# Altium schematic symbol library Supply Lines.SchLib: 23 symbols (part 2 of 2)
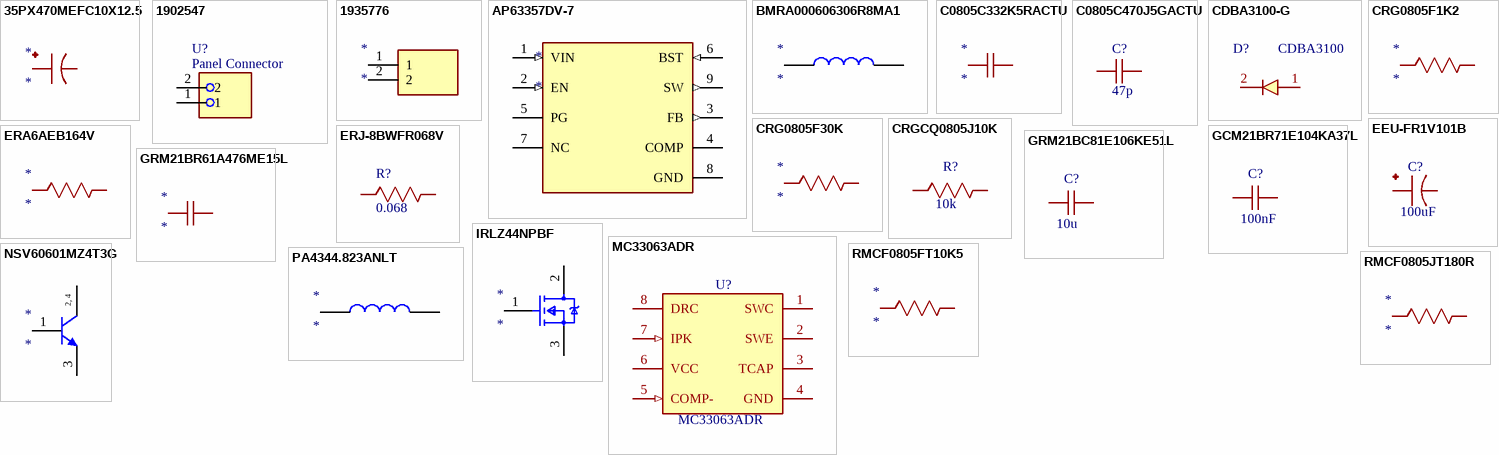
[diagram p1: symbols 35PX470MEFC10X12.5 to RMCF0805JT180R]

## ERJ-8BWFR068V
designator R?, comment 0.068
Res Thick Film 1206 0.068 Ohm 1% 1W ±100ppm/°C Molded SMD SMD Punched Carrier T/R; Manufacturer: Panasonic; Manufacturer Part Number: ERJ-8BWFR068V; Manufacturer Lifecycle Status: ACTIVE; Part Series: Current Sensing Resistors Thick Film Type; Value: 68mΩ; Working Voltage: 260.8mV; Supplier: DigiKey; Supplier Part Number: P.068AUCT-ND; RoHS: Compliant; Category: Chip SMD Resistors; Stock: 31382; Pricing: 1=0.66, 10=0.393, 25=0.3332, 50=0.299, 100=0.2718, 250=0.24428, 500=0.22836, 1000=0.21569 (USD); Case/Package: 1206; Case Code (Imperial): 1206; Case Code (Metric): 3216; Composition: Thick Film; Contact Plating: Tin; Depth: 1.6mm; Features: Automotive AEC-Q200; Height: 650µm; Lead Free: Lead Free; Length: 3.2mm; Lifecycle Status: Production; Max Operating Temperature: 155°C; Max Power Dissipation: 1W; Military Standard: Not; Min Operating Temperature: -55°C; Mounting Technology: Surface Mount; Pins: 2; Number of Terminals: 2; Number of Terminations: 2; Packaging: Cut Tape; Power Dissipation: 1W; Power Rating: 1W; Radiation Hardening: No; REACH SVHC: Yes; Schedule B: 8533210045, 8533210045|8533210045, 8533210045|8533210045|8533210045, 8533210045|8533210045|8533210045|8533210045; Temperature Coefficient: 100ppm/°C; Termination: SMD/SMT; Tolerance: 1%; Width: 1.6mm; ComponentLink1URL: https://datasheet.octopart.com:443/ERJ-8BWFR068V-Panasonic-datasheet-68299093.pdf?src-supplier=Panasonic; ComponentLink1Description: https://datasheet.octopart.com:443/ERJ-8BWFR068V-Panasonic-datasheet-68299093.pdf?src-supplier=Panasonic; ComponentLink2URL: https://datasheet.octopart.com:443/ERJ-8BWFR068V-Panasonic-datasheet-119112.pdf?src-supplier=Newark; ComponentLink2Description: https://datasheet.octopart.com:443/ERJ-8BWFR068V-Panasonic-datasheet-119112.pdf?src-supplier=Newark; ComponentLink3URL: https://datasheet.octopart.com:443/ERJ-8BWFR068V-Panasonic-datasheet-159764274.pdf?src-supplier=Newark; ComponentLink3Description: https://datasheet.octopart.com:443/ERJ-8BWFR068V-Panasonic-datasheet-159764274.pdf?src-supplier=Newark; ComponentLink4URL: https://datasheet.octopart.com:443/ERJ-8BWFR068V-Panasonic-datasheet-41172793.pdf?src-supplier=Farnell; ComponentLink4Description: https://datasheet.octopart.com:443/ERJ-8BWFR068V-Panasonic-datasheet-41172793.pdf?src-supplier=Farnell; ComponentLink5URL: https://datasheet.octopart.com:443/ERJ8BWFR068V-Panasonic---ECG-datasheet-15994758.pdf?src-supplier=Farnell; ComponentLink5Description: https://datasheet.octopart.com:443/ERJ8BWFR068V-Panasonic---ECG-datasheet-15994758.pdf?src-supplier=Farnell; ComponentLink6URL: https://datasheet.octopart.com:443/ERJ-8BWFR068V-Panasonic-datasheet-154766170.pdf?src-supplier=Master+Electronics; ComponentLink6Description: https://datasheet.octopart.com:443/ERJ-8BWFR068V-Panasonic-datasheet-154766170.pdf?src-supplier=Master+Electronics; ComponentLink7URL: https://datasheet.octopart.com:443/ERJ8BWFR068V-Panasonic-datasheet-12469511.pdf?src-supplier=element14+APAC; ComponentLink7Description: https://datasheet.octopart.com:443/ERJ8BWFR068V-Panasonic-datasheet-12469511.pdf?src-supplier=element14+APAC; ComponentLink8URL: https://datasheet.octopart.com:443/ERJ-8BWFR068V-Panasonic-datasheet-13271236.pdf?src-supplier=RS+(Formerly+Allied+Electronics); ComponentLink8Description: https://datasheet.octopart.com:443/ERJ-8BWFR068V-Panasonic-datasheet-13271236.pdf?src-supplier=RS+(Formerly+Allied+Electronics); ComponentLink9URL: https://datasheet.octopart.com:443/ERJ8BWFR068V-Panasonic-datasheet-10176864.pdf?src-supplier=RS+(Formerly+Allied+Electronics); ComponentLink9Description: https://datasheet.octopart.com:443/ERJ8BWFR068V-Panasonic-datasheet-10176864.pdf?src-supplier=RS+(Formerly+Allied+Electronics); ComponentLink10URL: https://datasheet.octopart.com:443/ERJ8BWFR068V-Panasonic-datasheet-170667598.pdf?src-supplier=TME; ComponentLink10Description: https://datasheet.octopart.com:443/ERJ8BWFR068V-Panasonic-datasheet-170667598.pdf?src-supplier=TME; ComponentLink11URL: https://datasheet.octopart.com:443/ERJ8BWFR068V-Panasonic-datasheet-164871471.pdf?src-supplier=Burklin+Elektronik; ComponentLink11Description: https://datasheet.octopart.com:443/ERJ8BWFR068V-Panasonic-datasheet-164871471.pdf?src-supplier=Burklin+Elektronik; ComponentLink12URL: https://datasheet.octopart.com:443/ERJ-8BWFR068V-Panasonic-datasheet-62346600.pdf?src-supplier=Future+Electronics; ComponentLink12Description: https://datasheet.octopart.com:443/ERJ-8BWFR068V-Panasonic-datasheet-62346600.pdf?src-supplier=Future+Electronics; ComponentLink13URL: https://datasheet.octopart.com:443/ERJ-8BWFR068V-Panasonic-datasheet-62099257.pdf?src-supplier=Electro+Sonic; ComponentLink13Description: https://datasheet.octopart.com:443/ERJ-8BWFR068V-Panasonic-datasheet-62099257.pdf?src-supplier=Electro+Sonic; ComponentLink14URL: https://datasheet.octopart.com:443/ERJ-8BWFR068V-Panasonic-datasheet-22087634.pdf?src-supplier=Electro+Sonic; ComponentLink14Description: https://datasheet.octopart.com:443/ERJ-8BWFR068V-Panasonic-datasheet-22087634.pdf?src-supplier=Electro+Sonic
footprint (1206) RESC3216X70X50NL05T20 (Chip Resistor, 2-Leads, Body 3.20x1.60mm, IPC Medium Density)
pins: 1, 2

## GCM21BR71E104KA37L
designator C?, comment 100nF
Ceramic Capacitor, Ceramic, 25V, 10% +Tol, 10% -Tol, X7R, 15% TC, 0.1uF, Surface Mount, 0805; Manufacturer: Murata; Manufacturer Part Number: GCM21BR71E104KA37L; Manufacturer Lifecycle Status: NRND; Supplier: DigiKey; Supplier Part Number: 490-14779-1-ND; RoHS: Compliant; Category: Ceramic Capacitors; Stock: 12316; Pricing: 1=0.35, 10=0.208, 50=0.1528, 100=0.1358, 500=0.10726, 1000=0.09846 (USD); Value: 100nF; Case/Package: 0805; Case Code (Imperial): 0805; Case Code (Metric): 2012; Depth: 1.25mm; Dielectric: X7R; Dielectric Material: Ceramic; Height: 1.25mm; Length: 2mm; Lifecycle Status: NRND; Max Operating Temperature: 125°C; Min Operating Temperature: -55°C; Mounting Technology: Surface Mount; Number of Terminals: 2; Radiation Hardening: No; Ratings: AEC-Q200; REACH SVHC: Yes; Schedule B: 8532240020, 8532240020|8532240020|8532240020|8532240020|8532240020; Termination: SMD/SMT; Tolerance: 10%; Voltage Rating: 25V; Voltage Rating (DC): 25V; Width: 1.25mm; ComponentLink1URL: https://datasheet.octopart.com:443/GCM21BR71E104KA37L-Murata-datasheet-141268656.pdf?src-supplier=Geoflip; ComponentLink1Description: https://datasheet.octopart.com:443/GCM21BR71E104KA37L-Murata-datasheet-141268656.pdf?src-supplier=Geoflip; ComponentLink2URL: https://datasheet.octopart.com:443/GCM21BR71E104KA37L-Murata-datasheet-140660253.pdf?src-supplier=Ciiva; ComponentLink2Description: https://datasheet.octopart.com:443/GCM21BR71E104KA37L-Murata-datasheet-140660253.pdf?src-supplier=Ciiva; ComponentLink3URL: https://datasheet.octopart.com:443/GCM21BR71E104KA37L-Murata-datasheet-138719617.pdf?src-supplier=Ciiva; ComponentLink3Description: https://datasheet.octopart.com:443/GCM21BR71E104KA37L-Murata-datasheet-138719617.pdf?src-supplier=Ciiva; ComponentLink4URL: https://datasheet.octopart.com:443/GCM21BR71E104KA37L-Murata-datasheet-128592896.pdf?src-supplier=X-ON; ComponentLink4Description: https://datasheet.octopart.com:443/GCM21BR71E104KA37L-Murata-datasheet-128592896.pdf?src-supplier=X-ON; ComponentLink5URL: https://datasheet.octopart.com/GCM21BR71E104KA37L-Murata-datasheet-14404970.pdf; ComponentLink5Description: https://datasheet.octopart.com/GCM21BR71E104KA37L-Murata-datasheet-14404970.pdf; ComponentLink6URL: http://sigma.octopart.com:80/reach_statement/Murata-company-16.pdf?src-supplier=Compliance+Statements; ComponentLink6Description: http://sigma.octopart.com:80/reach_statement/Murata-company-16.pdf?src-supplier=Compliance+Statements
footprint CAPC2013X140X45ML15T25 (Chip Capacitor, 2-Leads, Body 2.00x1.25mm, IPC Low Density)
pins: 1, 2

## GRM21BC81E106KE51L
designator C?, comment 10u
Ceramic Capacitor, Ceramic, 25V, 10% +Tol, 10% -Tol, X6S, 22% TC, 10uF, Surface Mount, 0805; Manufacturer: Murata; Manufacturer Part Number: GRM21BC81E106KE51L; Manufacturer Lifecycle Status: IN PRODUCTION; Value: 10µF; Supplier: DigiKey; Supplier Part Number: 490-10502-1-ND; RoHS: Compliant; Category: Ceramic Capacitors; Stock: 699194; Pricing: 1=0.23, 10=0.133, 50=0.0956, 100=0.0841, 500=0.06476, 1000=0.05881 (USD); Case/Package: 0805; Case Code (Imperial): 0805; Case Code (Metric): 2012; Dielectric: X6S; Dielectric Material: Ceramic; Height: 1.25mm; Length: 2mm; Lifecycle Status: Production; Material: Ceramic; Max Operating Temperature: 105°C; Min Operating Temperature: -55°C; Mounting Technology: Surface Mount; Number of Terminals: 2; REACH SVHC: Yes; Schedule B: 8532240020, 8532240020|8532240020|8532240020|8532240020|8532240020|8532240020|8532240020|8532240020|8532240020|8532240020|8532240020|8532240020|8532240020|8532240020|8532240020|8532240020|8532240020|8532240020|8532240020|8532240020|8532240020|8532240020|8532240020|85; Thickness: 1.25mm; Tolerance: 10%; Voltage Rating: 25V; Voltage Rating (DC): 25V; Width: 1.25mm; ComponentLink1URL: https://datasheet.octopart.com:443/GRM21BC81E106KE51L-Murata-datasheet-155239200.pdf?src-supplier=Newark; ComponentLink1Description: https://datasheet.octopart.com:443/GRM21BC81E106KE51L-Murata-datasheet-155239200.pdf?src-supplier=Newark; ComponentLink2URL: https://datasheet.octopart.com:443/GRM21BC81E106KE51L-Murata-datasheet-178521784.pdf?src-supplier=Arrow.cn; ComponentLink2Description: https://datasheet.octopart.com:443/GRM21BC81E106KE51L-Murata-datasheet-178521784.pdf?src-supplier=Arrow.cn; ComponentLink3URL: https://datasheet.octopart.com:443/GRM21BC81E106KE51L-Murata-datasheet-165579666.pdf?src-supplier=TME; ComponentLink3Description: https://datasheet.octopart.com:443/GRM21BC81E106KE51L-Murata-datasheet-165579666.pdf?src-supplier=TME; ComponentLink4URL: https://datasheet.octopart.com:443/GRM21BC81E106KE51L-Murata-datasheet-140707432.pdf?src-supplier=Ciiva; ComponentLink4Description: https://datasheet.octopart.com:443/GRM21BC81E106KE51L-Murata-datasheet-140707432.pdf?src-supplier=Ciiva; ComponentLink5URL: https://datasheet.octopart.com:443/GRM21BC81E106KE51L-Murata-datasheet-140706587.pdf?src-supplier=Ciiva; ComponentLink5Description: https://datasheet.octopart.com:443/GRM21BC81E106KE51L-Murata-datasheet-140706587.pdf?src-supplier=Ciiva; ComponentLink6URL: https://datasheet.octopart.com:443/GRM21BC81E106KE51L-Murata-datasheet-138744753.pdf?src-supplier=Ciiva; ComponentLink6Description: https://datasheet.octopart.com:443/GRM21BC81E106KE51L-Murata-datasheet-138744753.pdf?src-supplier=Ciiva; ComponentLink7URL: https://datasheet.octopart.com:443/GRM21BC81E106KE51L-Murata-datasheet-32479577.pdf?src-supplier=Future+Electronics; ComponentLink7Description: https://datasheet.octopart.com:443/GRM21BC81E106KE51L-Murata-datasheet-32479577.pdf?src-supplier=Future+Electronics; ComponentLink8URL: https://datasheet.octopart.com/GRM21BC81E106KE51L-Murata-datasheet-12515295.pdf; ComponentLink8Description: https://datasheet.octopart.com/GRM21BC81E106KE51L-Murata-datasheet-12515295.pdf; ComponentLink9URL: https://datasheet.octopart.com/GRM21BC81E106KE51L-Murata-datasheet-12510076.pdf; ComponentLink9Description: https://datasheet.octopart.com/GRM21BC81E106KE51L-Murata-datasheet-12510076.pdf; ComponentLink10URL: https://datasheet.octopart.com/GRM21BC81E106KE51L-Murata-datasheet-11978611.pdf; ComponentLink10Description: https://datasheet.octopart.com/GRM21BC81E106KE51L-Murata-datasheet-11978611.pdf; ComponentLink11URL: https://datasheet.octopart.com/GRM21BC81E106KE51L-Murata-datasheet-10025737.pdf; ComponentLink11Description: https://datasheet.octopart.com/GRM21BC81E106KE51L-Murata-datasheet-10025737.pdf; ComponentLink12URL: https://datasheet.octopart.com/GRM21BC81E106KE51L-Murata-datasheet-8819587.pdf; ComponentLink12Description: https://datasheet.octopart.com/GRM21BC81E106KE51L-Murata-datasheet-8819587.pdf; ComponentLink13URL: https://datasheet.octopart.com/GRM21BC81E106KE51L-Murata-datasheet-38883375.pdf; ComponentLink13Description: https://datasheet.octopart.com/GRM21BC81E106KE51L-Murata-datasheet-38883375.pdf; ComponentLink14URL: http://sigma.octopart.com:80/reach_statement/Murata-company-16.pdf?src-supplier=Compliance+Statements; ComponentLink14Description: http://sigma.octopart.com:80/reach_statement/Murata-company-16.pdf?src-supplier=Compliance+Statements
footprint FP-GRM21B-0_15-IPC_A
pins: 1, 2

## GRM21BR61A476ME15L
designator *
10V 47uF X5R ±20% 0805 Multilayer Ceramic Capacitors MLCC - SMD/SMT ROHS; Manufacturer: Murata; Manufacturer Part Number: GRM21BR61A476ME15L; Manufacturer Lifecycle Status: IN PRODUCTION; Value: 47µF; Dissipation Factor: 0.035%; Supplier: Mouser; Supplier Part Number: 81-GRM21BR61A476ME5L; RoHS: Compliant; Category: Ceramic Capacitors; Stock: 454455; Pricing: 1=0.64, 10=0.423, 50=0.285, 100=0.264, 500=0.213, 1000=0.195, 3000=0.152, 6000=0.147, 10000=0.17 (USD); Case/Package: 0805; Case Code (Imperial): 0805; Case Code (Metric): 2012; Country of Origin: Philippines; Depth: 1.25mm; Dielectric: X5R; Dielectric Material: Ceramic; Export Control Classification Number (ECCN) Code: EAR99; Height: 1.25mm; Harmonized Tariff Schedule (HTS) Code: 8532.24.00.20; Introduction Date: 2013-11-20; Lead Free: Lead Free; Length: 2mm; Lifecycle Status: Production; Material: Ceramic; Max Operating Temperature: 85°C; Min Operating Temperature: -55°C; Mounting Technology: Surface Mount; Number of Terminals: 2; Packaging: Cut Tape; REACH SVHC: Yes; Schedule B: 8532240020, 8532240020|8532240020, 8532240020|8532240020|8532240020, 8532240020|8532240020|8532240020|8532240020; Termination: SMD/SMT; Thickness: 1.25mm; Tolerance: 20%; Voltage: 10V; Voltage Rating: 10V; Voltage Rating (DC): 10V; Width: 1.25mm; ComponentLink1URL: https://datasheet.octopart.com:443/GRM21BR61A476ME15L-Murata-datasheet-22122223.pdf?src-supplier=Upverter; ComponentLink1Description: https://datasheet.octopart.com:443/GRM21BR61A476ME15L-Murata-datasheet-22122223.pdf?src-supplier=Upverter; ComponentLink2URL: https://datasheet.octopart.com:443/GRM21BR61A476ME15L-Murata-datasheet-66077109.pdf?src-supplier=element14+APAC; ComponentLink2Description: https://datasheet.octopart.com:443/GRM21BR61A476ME15L-Murata-datasheet-66077109.pdf?src-supplier=element14+APAC; ComponentLink3URL: https://datasheet.octopart.com:443/GRM21BR61A476ME15L-Murata-datasheet-141278181.pdf?src-supplier=Geoflip; ComponentLink3Description: https://datasheet.octopart.com:443/GRM21BR61A476ME15L-Murata-datasheet-141278181.pdf?src-supplier=Geoflip; ComponentLink4URL: https://datasheet.octopart.com:443/GRM21BR61A476ME15L-Murata-datasheet-165579666.pdf?src-supplier=TME; ComponentLink4Description: https://datasheet.octopart.com:443/GRM21BR61A476ME15L-Murata-datasheet-165579666.pdf?src-supplier=TME; ComponentLink5URL: https://datasheet.octopart.com:443/GRM21BR61A476ME15L-Murata-datasheet-59876780.pdf?src-supplier=TME; ComponentLink5Description: https://datasheet.octopart.com:443/GRM21BR61A476ME15L-Murata-datasheet-59876780.pdf?src-supplier=TME; ComponentLink6URL: https://datasheet.octopart.com:443/GRM21BR61A476ME15L-Murata-datasheet-140707527.pdf?src-supplier=Ciiva; ComponentLink6Description: https://datasheet.octopart.com:443/GRM21BR61A476ME15L-Murata-datasheet-140707527.pdf?src-supplier=Ciiva; ComponentLink7URL: https://datasheet.octopart.com:443/GRM21BR61A476ME15L-Murata-datasheet-138744839.pdf?src-supplier=Ciiva; ComponentLink7Description: https://datasheet.octopart.com:443/GRM21BR61A476ME15L-Murata-datasheet-138744839.pdf?src-supplier=Ciiva; ComponentLink8URL: https://datasheet.octopart.com/GRM21BR61A476ME15L-Murata-datasheet-12515295.pdf; ComponentLink8Description: https://datasheet.octopart.com/GRM21BR61A476ME15L-Murata-datasheet-12515295.pdf; ComponentLink9URL: https://datasheet.octopart.com/GRM21BR61A476ME15L-Murata-datasheet-12510076.pdf; ComponentLink9Description: https://datasheet.octopart.com/GRM21BR61A476ME15L-Murata-datasheet-12510076.pdf; ComponentLink10URL: https://datasheet.octopart.com/GRM21BR61A476ME15L-Murata-datasheet-11978611.pdf; ComponentLink10Description: https://datasheet.octopart.com/GRM21BR61A476ME15L-Murata-datasheet-11978611.pdf; ComponentLink11URL: https://datasheet.octopart.com/GRM21BR61A476ME15L-Murata-datasheet-10025737.pdf; ComponentLink11Description: https://datasheet.octopart.com/GRM21BR61A476ME15L-Murata-datasheet-10025737.pdf; ComponentLink12URL: https://datasheet.octopart.com/GRM21BR61A476ME15L-Murata-datasheet-8819587.pdf; ComponentLink12Description: https://datasheet.octopart.com/GRM21BR61A476ME15L-Murata-datasheet-8819587.pdf; ComponentLink13URL: http://sigma.octopart.com:80/reach_statement/Murata-company-16.pdf?src-supplier=Compliance+Statements; ComponentLink13Description: http://sigma.octopart.com:80/reach_statement/Murata-company-16.pdf?src-supplier=Compliance+Statements
footprint FP-GRM21B-0_15-IPC_A
pins: 1, 2

## IRLZ44NPBF
designator *
Mosfet, Power; N-ch; Vdss 55V; Rds(on) 0.022 Ohm; Id 47A; TO-220AB; Pd 110W; Vgs +/-16V; Manufacturer: Infineon; Manufacturer Part Number: IRLZ44NPBF; Continuous Drain Current (ID): 41A; Drain to Source Resistance: 22mΩ; Element Configuration: Single; Fall Time: 15ns; Gate to Source Voltage (Vgs): 16V; Input Capacitance: 1.7nF; Max Junction Temperature (Tj): 175°C; Max Power Dissipation: 83W; Nominal Vgs: 2V; Number of Channels: 1; Recovery Time: 120ns; Value: 22mΩ; Rise Time: 84ns; Turn-Off Delay Time: 26ns; Turn-On Delay Time: 11ns; Supplier: Mouser; Supplier Part Number: 942-IRLZ44NPBF; RoHS: Compliant; Category: MOSFETs; Stock: 23728; Pricing: 1=1.78, 10=0.852, 50=0.852, 100=0.761, 500=0.602, 1000=0.55, 2000=0.533, 10000=0.533 (USD); Case/Package: TO-220; China RoHS: Compliant; Country of Origin: Mainland China; Current Rating: 47A; Drain to Source Breakdown Voltage: 55V; Drain to Source Voltage (Vdss): 55V; Dual Supply Voltage: 55V; Export Control Classification Number (ECCN) Code: EAR99; Height: 19.15mm; Harmonized Tariff Schedule (HTS) Code: 8541.29.00.95; Introduction Date: 1996-02-01; Lead Free: Lead Free; Lead Pitch: 2.54mm; Length: 10.5156mm; Lifecycle Status: Obsolete; Max Operating Temperature: 175°C; Min Breakdown Voltage: 55V; Min Operating Temperature: -55°C; Mounting Technology: Through Hole; Number of Elements: 1; Pins: 3; Number of Terminals: 3; On-State Resistance: 22mΩ; Package Quantity: 1000; Packaging: Bulk; Power Dissipation: 83W; Radiation Hardening: No; Rds On Max: 22mΩ; REACH SVHC: Yes; Schedule B: 8541290080, 8541290080|8541290080, 8541290080|8541290080|8541290080, 8541290080|8541290080|8541290080|8541290080; Threshold Voltage: 2V; Voltage Rating (DC): 55V; Width: 4.69mm; ComponentLink1URL: https://datasheet.octopart.com:443/IRLZ44NPBF-Infineon-datasheet-8115202.pdf?src-supplier=IHS; ComponentLink1Description: https://datasheet.octopart.com:443/IRLZ44NPBF-Infineon-datasheet-8115202.pdf?src-supplier=IHS; ComponentLink2URL: https://datasheet.octopart.com:443/IRLZ44NPBF-Infineon-datasheet-180073549.pdf?src-supplier=IHS; ComponentLink2Description: https://datasheet.octopart.com:443/IRLZ44NPBF-Infineon-datasheet-180073549.pdf?src-supplier=IHS; ComponentLink3URL: https://datasheet.octopart.com:443/IRLZ44NPBF-Infineon-datasheet-8332259.pdf?src-supplier=IHS; ComponentLink3Description: https://datasheet.octopart.com:443/IRLZ44NPBF-Infineon-datasheet-8332259.pdf?src-supplier=IHS; ComponentLink4URL: https://datasheet.octopart.com:443/IRLZ44N-International-Rectifier-datasheet-13774.pdf?src-supplier=Mouser; ComponentLink4Description: https://datasheet.octopart.com:443/IRLZ44N-International-Rectifier-datasheet-13774.pdf?src-supplier=Mouser; ComponentLink5URL: https://datasheet.octopart.com:443/IRLZ44NPBF-Infineon-datasheet-9571985.pdf?src-supplier=RS+(Formerly+Allied+Electronics); ComponentLink5Description: https://datasheet.octopart.com:443/IRLZ44NPBF-Infineon-datasheet-9571985.pdf?src-supplier=RS+(Formerly+Allied+Electronics); ComponentLink6URL: https://datasheet.octopart.com:443/IRLZ44N-International-Rectifier-datasheet-72962.pdf?src-supplier=RS+(Formerly+Allied+Electronics); ComponentLink6Description: https://datasheet.octopart.com:443/IRLZ44N-International-Rectifier-datasheet-72962.pdf?src-supplier=RS+(Formerly+Allied+Electronics); ComponentLink7URL: https://datasheet.octopart.com:443/IRLZ44NPBF-Infineon-datasheet-7084853.pdf?src-supplier=Jameco; ComponentLink7Description: https://datasheet.octopart.com:443/IRLZ44NPBF-Infineon-datasheet-7084853.pdf?src-supplier=Jameco; ComponentLink8URL: https://datasheet.octopart.com:443/IRLZ44N-International-Rectifier-datasheet-10848736.pdf?src-supplier=iiiC; ComponentLink8Description: https://datasheet.octopart.com:443/IRLZ44N-International-Rectifier-datasheet-10848736.pdf?src-supplier=iiiC; ComponentLink9URL: https://datasheet.octopart.com:443/IRLZ44NPBF-International-Rectifier-datasheet-14061625.pdf?src-supplier=iiiC; ComponentLink9Description: https://datasheet.octopart.com:443/IRLZ44NPBF-International-Rectifier-datasheet-14061625.pdf?src-supplier=iiiC; ComponentLink10URL: https://datasheet.octopart.com:443/IRLZ44NPBF-International-Rectifier-datasheet-77209.pdf?src-supplier=DigiKey; ComponentLink10Description: https://datasheet.octopart.com:443/IRLZ44NPBF-International-Rectifier-datasheet-77209.pdf?src-supplier=DigiKey; ComponentLink11URL: http://sigma.octopart.com:80/conflict_mineral_statement/Infineon-company-51.pdf?src-supplier=Compliance+Statements; ComponentLink11Description: http://sigma.octopart.com:80/conflict_mineral_statement/Infineon-company-51.pdf?src-supplier=Compliance+Statements; ComponentLink12URL: http://sigma.octopart.com:80/reach_statement/International-Rectifier-company-55.pdf?src-supplier=Compliance+Statements; ComponentLink12Description: http://sigma.octopart.com:80/reach_statement/International-Rectifier-company-55.pdf?src-supplier=Compliance+Statements; ComponentLink13URL: http://sigma.octopart.com:80/rohs_statement/International-Rectifier-company-54.pdf?src-supplier=Compliance+Statements; ComponentLink13Description: http://sigma.octopart.com:80/rohs_statement/International-Rectifier-company-54.pdf?src-supplier=Compliance+Statements
footprint (MOSFET) FP-PG-TO220-3-MFG
pins: 1 G, 2 D, 3 S

## MC33063ADR
designator U?
1.5-A boost, buck, inverting switching regulator, operation from -40°C to 85°C 8-SOIC -40 to 85; Manufacturer: Texas Instruments; Manufacturer Lifecycle Status: ACTIVE; Max Supply Voltage: 40V; Max Output current: 750mA; Min Input Voltage: 3V; Min Output Voltage: 1.25V; Number of Channels: 1; Output Current: 1.5A; Output Type: Adjustable; Quiescent Current: 4mA; Switching Frequency: 100kHz; Synchronous Rectifier: No; Topology: Boost, Buck, Flyback, SEPIC; Supplier: DigiKey; Supplier Part Number: 296-17763-1-ND; Manufacturer Part Number: MC33063ADR; RoHS: Compliant; Category: Voltage Regulators - Switching; Stock: 28348; Pricing: 1=0.7, 10=0.499, 25=0.4484, 100=0.3924, 250=0.36564, 500=0.3495, 1000=0.33623 (USD); Case/Package: SOIC; Contact Plating: Gold; Height: 1.75mm; Lead Free: Lead Free; Length: 4.9mm; Lifecycle Status: Production; Max Operating Temperature: 85°C; Max Output Voltage: 40V; Min Operating Temperature: -40°C; Number of Outputs: 1; Pins: 8; Output Voltage: 1.25V; Packaging: Cut Tape; REACH SVHC: No; Schedule B: 8542390000, 8542390000|8542390000|8542390000|8542390000|8542390000; Termination: SMD/SMT; Thickness: 1.58mm; Weight: 72.603129mg; Width: 3.91mm; ComponentLink1URL: https://octopart.com:443/opatz8j6/c1?t=vRUIAOtUKQQXvKqlrexfz4d8y8SFcyA-_XtbYegMgY-IuIHpQagvyubSixvLCS_JDfIKt_x49E7oZRWRd2BYWVXw9riueRxdDMFAsJXXPSqOaGP_nMLA8edQwSNTnMdmR1QsnAu_2HxxO1rwpalXz5NHB4arOO7zP6RfKxWUVDNQ7aNY3RcHgLh8TPXRHc2v_TLvNv-KiSbEAIFDeTYUuYJBqwNy3sQmWDm06T9xZhirujnXW-71LBNlB35zEcw1f5jl7Jwf5Aatpw8_Y0XlWi65mimBgoqKr7BJn1UODlk-uLR8ncNtZqIX6iRmA18OAad3m3uXmi8PXYahMMydeUxFiCmjmLIy7NAXwyodWvx5H3_ir9o9F0TP9Dp4ezsZFjQt&src-supplier=Texas+Instruments; ComponentLink1Description: https://octopart.com:443/opatz8j6/c1?t=vRUIAOtUKQQXvKqlrexfz4d8y8SFcyA-_XtbYegMgY-IuIHpQagvyubSixvLCS_JDfIKt_x49E7oZRWRd2BYWVXw9riueRxdDMFAsJXXPSqOaGP_nMLA8edQwSNTnMdmR1QsnAu_2HxxO1rwpalXz5NHB4arOO7zP6RfKxWUVDNQ7aNY3RcHgLh8TPXRHc2v_TLvNv-KiSbEAIFDeTYUuYJBqwNy3sQmWDm06T9xZhirujnXW-71LBNlB35zEcw1f5jl7Jwf5Aatpw8_Y0XlWi65mimBgoqKr7BJn1UODlk-uLR8ncNtZqIX6iRmA18OAad3m3uXmi8PXYahMMydeUxFiCmjmLIy7NAXwyodWvx5H3_ir9o9F0TP9Dp4ezsZFjQt&src-supplier=Texas+Instruments; ComponentLink2URL: https://datasheet.octopart.com:443/MC33063ADR-Texas-Instruments-datasheet-10254267.pdf?src-supplier=Texas+Instruments; ComponentLink2Description: https://datasheet.octopart.com:443/MC33063ADR-Texas-Instruments-datasheet-10254267.pdf?src-supplier=Texas+Instruments; ComponentLink3URL: https://sigma.octopart.com:443/49249642/technical_drawing/Texas-Instruments-MC33063ADR.pdf?src-supplier=Texas+Instruments; ComponentLink3Description: https://sigma.octopart.com:443/49249642/technical_drawing/Texas-Instruments-MC33063ADR.pdf?src-supplier=Texas+Instruments; ComponentLink4URL: https://datasheet.octopart.com:443/MC33063ADR-Texas-Instruments-datasheet-149239.pdf?src-supplier=Texas+Instruments; ComponentLink4Description: https://datasheet.octopart.com:443/MC33063ADR-Texas-Instruments-datasheet-149239.pdf?src-supplier=Texas+Instruments; ComponentLink5URL: https://datasheet.octopart.com:443/MC33063ADR-Texas-Instruments-datasheet-149238.pdf?src-supplier=Texas+Instruments; ComponentLink5Description: https://datasheet.octopart.com:443/MC33063ADR-Texas-Instruments-datasheet-149238.pdf?src-supplier=Texas+Instruments; ComponentLink6URL: https://datasheet.octopart.com:443/MC33063ADR-Texas-Instruments-datasheet-149237.pdf?src-supplier=Texas+Instruments; ComponentLink6Description: https://datasheet.octopart.com:443/MC33063ADR-Texas-Instruments-datasheet-149237.pdf?src-supplier=Texas+Instruments; ComponentLink7URL: https://datasheet.octopart.com:443/MC33063ADR-Texas-Instruments-datasheet-149241.pdf?src-supplier=Texas+Instruments; ComponentLink7Description: https://datasheet.octopart.com:443/MC33063ADR-Texas-Instruments-datasheet-149241.pdf?src-supplier=Texas+Instruments; ComponentLink8URL: https://datasheet.octopart.com:443/MC33063ADR-Texas-Instruments-datasheet-149240.pdf?src-supplier=Texas+Instruments; ComponentLink8Description: https://datasheet.octopart.com:443/MC33063ADR-Texas-Instruments-datasheet-149240.pdf?src-supplier=Texas+Instruments; ComponentLink9URL: https://datasheet.octopart.com:443/MC33063ADR-Texas-Instruments-datasheet-81639027.pdf?src-supplier=Farnell; ComponentLink9Description: https://datasheet.octopart.com:443/MC33063ADR-Texas-Instruments-datasheet-81639027.pdf?src-supplier=Farnell; ComponentLink10URL: https://datasheet.octopart.com:443/MC33063ADR-Texas-Instruments-datasheet-37140769.pdf?src-supplier=Farnell; ComponentLink10Description: https://datasheet.octopart.com:443/MC33063ADR-Texas-Instruments-datasheet-37140769.pdf?src-supplier=Farnell; ComponentLink11URL: https://datasheet.octopart.com:443/MC33063ADR-Texas-Instruments-datasheet-12606816.pdf?src-supplier=Farnell; ComponentLink11Description: https://datasheet.octopart.com:443/MC33063ADR-Texas-Instruments-datasheet-12606816.pdf?src-supplier=Farnell; ComponentLink12URL: https://datasheet.octopart.com:443/MC33063ADR-Texas-Instruments-datasheet-33038661.pdf?src-supplier=element14+APAC; ComponentLink12Description: https://datasheet.octopart.com:443/MC33063ADR-Texas-Instruments-datasheet-33038661.pdf?src-supplier=element14+APAC; ComponentLink13URL: https://datasheet.octopart.com:443/MC33063ADR.-Texas-Instruments-datasheet-65572232.pdf?src-supplier=element14+APAC; ComponentLink13Description: https://datasheet.octopart.com:443/MC33063ADR.-Texas-Instruments-datasheet-65572232.pdf?src-supplier=element14+APAC; ComponentLink14URL: https://datasheet.octopart.com:443/MC33063ADR.-Texas-Instruments-datasheet-58444985.pdf?src-supplier=element14+APAC; ComponentLink14Description: https://datasheet.octopart.com:443/MC33063ADR.-Texas-Instruments-datasheet-58444985.pdf?src-supplier=element14+APAC; ComponentLink15URL: https://datasheet.octopart.com:443/MC33063ADR-Texas-Instruments-datasheet-23714746.pdf?src-supplier=Newark; ComponentLink15Description: https://datasheet.octopart.com:443/MC33063ADR-Texas-Instruments-datasheet-23714746.pdf?src-supplier=Newark; ComponentLink16URL: https://datasheet.octopart.com:443/MC33063ADR-Texas-Instruments-datasheet-12052.pdf?src-supplier=Newark; ComponentLink16Description: https://datasheet.octopart.com:443/MC33063ADR-Texas-Instruments-datasheet-12052.pdf?src-supplier=Newark; ComponentLink17URL: https://datasheet.octopart.com:443/MC33063ADR-Texas-Instruments-datasheet-159115500.pdf?src-supplier=LCSC; ComponentLink17Description: https://datasheet.octopart.com:443/MC33063ADR-Texas-Instruments-datasheet-159115500.pdf?src-supplier=LCSC; ComponentLink18URL: https://datasheet.octopart.com:443/MC33063ADR-Texas-Instruments-datasheet-137316104.pdf?src-supplier=Future+Electronics; ComponentLink18Description: https://datasheet.octopart.com:443/MC33063ADR-Texas-Instruments-datasheet-137316104.pdf?src-supplier=Future+Electronics; ComponentLink19URL: https://datasheet.octopart.com:443/MC33063ADR-Texas-Instruments-datasheet-11768196.pdf?src-supplier=Arrow+Electronics; ComponentLink19Description: https://datasheet.octopart.com:443/MC33063ADR-Texas-Instruments-datasheet-11768196.pdf?src-supplier=Arrow+Electronics; ComponentLink20URL: https://datasheet.octopart.com:443/MC33063ADR-Texas-Instruments-datasheet-8883959.pdf?src-supplier=element14; ComponentLink20Description: https://datasheet.octopart.com:443/MC33063ADR-Texas-Instruments-datasheet-8883959.pdf?src-supplier=element14; ComponentLink21URL: https://datasheet.octopart.com:443/MC33063ADR-Texas-Instruments-datasheet-137654.pdf?src-supplier=DigiKey; ComponentLink21Description: https://datasheet.octopart.com:443/MC33063ADR-Texas-Instruments-datasheet-137654.pdf?src-supplier=DigiKey; ComponentLink22URL: https://datasheet.octopart.com:443/MC33063ADR-Texas-Instruments-datasheet-14045796.pdf?src-supplier=iiiC; ComponentLink22Description: https://datasheet.octopart.com:443/MC33063ADR-Texas-Instruments-datasheet-14045796.pdf?src-supplier=iiiC; ComponentLink23URL: http://sigma.octopart.com:80/conflict_mineral_statement/Texas-Instruments-company-63.pdf?src-supplier=Compliance+Statements; ComponentLink23Description: http://sigma.octopart.com:80/conflict_mineral_statement/Texas-Instruments-company-63.pdf?src-supplier=Compliance+Statements; ComponentLink24URL: http://sigma.octopart.com:80/reach_statement/Texas-Instruments-company-64.pdf?src-supplier=Compliance+Statements; ComponentLink24Description: http://sigma.octopart.com:80/reach_statement/Texas-Instruments-company-64.pdf?src-supplier=Compliance+Statements
footprint D0008A_L (SOIC, 8-Leads, Body 5x4mm, Pitch 1.27mm, IPC High Density)
pins: 1 SWC (oc), 2 SWE (oe), 3 TCAP, 4 GND (power), 5 COMP- (in), 6 VCC (power), 7 IPK (in), 8 DRC (oc)

## NSV60601MZ4T3G
designator *
60V 800mW 120@1A, 2V 6A NPN SOT-223 Bipolar Transistors - BJT ROHS; Manufacturer: onsemi; Manufacturer Part Number: NSV60601MZ4T3G; Manufacturer Lifecycle Status: ACTIVE; Collector Base Voltage (VCBO): 100V; hFE Min: 50; Max Power Dissipation: 2W; Number of Elements: 1; Transition Frequency: 100MHz; Supplier: Mouser; Supplier Part Number: 863-NSV60601MZ4T3G; RoHS: Compliant; Category: BJTs; Stock: 4495; Pricing: 1=0.99, 10=0.619, 50=0.619, 100=0.403, 1000=0.281, 10000=0.24 (USD); Case/Package: SOT-223-4; China RoHS: Non-Compliant; Collector Emitter Breakdown Voltage: 60V; Collector Emitter Voltage (VCEO): 60V; Country of Origin: Malaysia; Export Control Classification Number (ECCN) Code: EAR99; Halogen Free: Halogen Free; Introduction Date: 2007-09-19; Lead Free: Lead Free; Lifecycle Status: Production; Max Collector Current: 6A; Max Operating Temperature: 150°C; Min Operating Temperature: -55°C; Pins: 4; Number of Terminals: 4; Packaging: Tape and Reel; Polarity: NPN; Radiation Hardening: No; REACH SVHC: No; Schedule B: 8541290080, 8541290080|8541290080|8541290080|8541290080|8541290080; ComponentLink1URL: https://datasheet.octopart.com:443/NSV60601MZ4T3G-onsemi-datasheet-180967378.pdf?src-supplier=IHS; ComponentLink1Description: https://datasheet.octopart.com:443/NSV60601MZ4T3G-onsemi-datasheet-180967378.pdf?src-supplier=IHS; ComponentLink2URL: https://datasheet.octopart.com:443/NSV60601MZ4T3G-ON-Semiconductor-datasheet-12533590.pdf?src-supplier=Upverter; ComponentLink2Description: https://datasheet.octopart.com:443/NSV60601MZ4T3G-ON-Semiconductor-datasheet-12533590.pdf?src-supplier=Upverter; ComponentLink3URL: https://datasheet.octopart.com:443/NSV60601MZ4T3G-ON-Semiconductor-datasheet-606849.pdf?src-supplier=Upverter; ComponentLink3Description: https://datasheet.octopart.com:443/NSV60601MZ4T3G-ON-Semiconductor-datasheet-606849.pdf?src-supplier=Upverter; ComponentLink4URL: https://datasheet.octopart.com:443/NSV60601MZ4T3G-ON-Semiconductor-datasheet-21211183.pdf?src-supplier=Master+Electronics; ComponentLink4Description: https://datasheet.octopart.com:443/NSV60601MZ4T3G-ON-Semiconductor-datasheet-21211183.pdf?src-supplier=Master+Electronics; ComponentLink5URL: https://datasheet.octopart.com:443/NSV60601MZ4T3G-ON-Semiconductor-datasheet-11789331.pdf?src-supplier=Arrow+Electronics; ComponentLink5Description: https://datasheet.octopart.com:443/NSV60601MZ4T3G-ON-Semiconductor-datasheet-11789331.pdf?src-supplier=Arrow+Electronics; ComponentLink6URL: http://sigma.octopart.com:80/15540786/rohs_certificate/ON-Semiconductor-NSV60601MZ4T3G.pdf?src-supplier=Compliance+Statements; ComponentLink6Description: http://sigma.octopart.com:80/15540786/rohs_certificate/ON-Semiconductor-NSV60601MZ4T3G.pdf?src-supplier=Compliance+Statements; ComponentLink7URL: http://sigma.octopart.com:80/15684142/materials_sheet/ON-Semiconductor-NSV60601MZ4T3G.csv?src-supplier=Compliance+Statements; ComponentLink7Description: http://sigma.octopart.com:80/15684142/materials_sheet/ON-Semiconductor-NSV60601MZ4T3G.csv?src-supplier=Compliance+Statements; ComponentLink8URL: http://sigma.octopart.com:80/150628244/rohs_statement/ON-Semiconductor-NSV60601MZ4T3G.pdf?src-supplier=Compliance+Statements; ComponentLink8Description: http://sigma.octopart.com:80/150628244/rohs_statement/ON-Semiconductor-NSV60601MZ4T3G.pdf?src-supplier=Compliance+Statements; ComponentLink9URL: http://sigma.octopart.com:80/reach_statement/ON-Semiconductor-company-79.pdf?src-supplier=Compliance+Statements; ComponentLink9Description: http://sigma.octopart.com:80/reach_statement/ON-Semiconductor-company-79.pdf?src-supplier=Compliance+Statements; ComponentLink10URL: https://octopart.com:443/opatz8j6/c1?t=Fq9RzD1z76oITuJnUUIIje9FnkMVw7ujGmtvxlL00zEvNMuOTriP7ey4Z3fRDYHD9Ctmb2fFYDrQaTM328HbVSlQMdsz6cadFcpeZ3i-y4W-8NNzytqH1aDcYoJZxSLKkuhNMq89DChMVVbIPDo3_9CKO0jwaYgtXJ2tr_4Ac0NiaTg-0nbrA8WXrwmEPPzNMpnToj5WBXCY927xqXj6u9aDy6C97GxIEVr9rPPowPeLQdmU012F5EopcAhi18yvGvo97zShD_va5H4ofGkJIYYZwQ54_et4WUoF8BvkpBQpihA89mEv272vegbmvhlz6zCyIE0Zs8UG_eGBnLWEM_DH1msLZlWc-DnRoDw36JidmA&src-supplier=Compliance+Statements; ComponentLink10Description: https://octopart.com:443/opatz8j6/c1?t=Fq9RzD1z76oITuJnUUIIje9FnkMVw7ujGmtvxlL00zEvNMuOTriP7ey4Z3fRDYHD9Ctmb2fFYDrQaTM328HbVSlQMdsz6cadFcpeZ3i-y4W-8NNzytqH1aDcYoJZxSLKkuhNMq89DChMVVbIPDo3_9CKO0jwaYgtXJ2tr_4Ac0NiaTg-0nbrA8WXrwmEPPzNMpnToj5WBXCY927xqXj6u9aDy6C97GxIEVr9rPPowPeLQdmU012F5EopcAhi18yvGvo97zShD_va5H4ofGkJIYYZwQ54_et4WUoF8BvkpBQpihA89mEv272vegbmvhlz6zCyIE0Zs8UG_eGBnLWEM_DH1msLZlWc-DnRoDw36JidmA&src-supplier=Compliance+Statements; ComponentLink11URL: https://octopart.com:443/opatz8j6/c1?t=tsQCiBBqWjRv9H8_qbVEh58QX2dyIyjSx_cb_gShZ_LdjRhCJs2v19vJ3hL_KsOOYdLsEBJYel_52N-cvg8Nzchwl-Vd808wzW76ClgUy7p7O7OrMqJgWE9jlp_z7LQvFoUP7UyMrYrQG4La1ByiYJ6EqOVy0piM5QlrfCjZhxQkqVLmIZ55MdyQ9G7T5qS0aXRldBDlea3nPYCTSrbUz_3IkUli_7v4SpOJX9E9w3x3bcf4MS5otDIfWZsdEsyNPX7iWCy7wP_q6j1AoCZFXN9d-Ms9tvnyBheX3UlYZTBXdEAQ2qSpJyKZlEuTOQRh73pTUHv4FAck1aaFrOxKMKoUbyEzp1lIlMLsYkCyxUN0&src-supplier=Compliance+Statements; ComponentLink11Description: https://octopart.com:443/opatz8j6/c1?t=tsQCiBBqWjRv9H8_qbVEh58QX2dyIyjSx_cb_gShZ_LdjRhCJs2v19vJ3hL_KsOOYdLsEBJYel_52N-cvg8Nzchwl-Vd808wzW76ClgUy7p7O7OrMqJgWE9jlp_z7LQvFoUP7UyMrYrQG4La1ByiYJ6EqOVy0piM5QlrfCjZhxQkqVLmIZ55MdyQ9G7T5qS0aXRldBDlea3nPYCTSrbUz_3IkUli_7v4SpOJX9E9w3x3bcf4MS5otDIfWZsdEsyNPX7iWCy7wP_q6j1AoCZFXN9d-Ms9tvnyBheX3UlYZTBXdEAQ2qSpJyKZlEuTOQRh73pTUHv4FAck1aaFrOxKMKoUbyEzp1lIlMLsYkCyxUN0&src-supplier=Compliance+Statements
footprint ONSC-SOT-223-4-318E-04_V (SOT223, 4-Leads, Body 6.5x3.5mm, Pitch 2.3mm)
pins: 1 B, 2 C, 3 E, 4 C
text: 2, 4

## PA4344.823ANLT
designator *
Inductor Power Shielded/Molded Wirewound 82uH 20% 100KHz 6.5A 0.083Ohm DCR T/R; Manufacturer: Pulse Electronics; Manufacturer Part Number: PA4344.823ANLT; DC Resistance (DCR): 83mΩ; Value: 82µH; Number of Circuits: 1; Supplier: Mouser; Supplier Part Number: 673-PA4344.823ANLT; RoHS: Compliant; Category: Fixed Inductors; Stock: 1073; Pricing: 1=3.66, 10=3.01, 50=2.94, 100=2.34, 1000=2.27, 10000=2.27 (USD); Country of Origin: Mainland China; Export Control Classification Number (ECCN) Code: EAR99; Height: 6.7mm; Harmonized Tariff Schedule (HTS) Code: 8504.50.80.00; Introduction Date: 2017-09-08; Lifecycle Status: Production; Max Current Rating: 6.5A; Max Operating Temperature: 155°C; Min Operating Temperature: -55°C; Number of Terminals: 2; REACH SVHC: Yes; Shielding: Shielded; Test Frequency: 100kHz; Tolerance: 20%; Width: 16.9mm; ComponentLink1URL: https://datasheet.octopart.com:443/PA4344.823ANLT-Pulse-datasheet-151605165.pdf?src-supplier=IHS; ComponentLink1Description: https://datasheet.octopart.com:443/PA4344.823ANLT-Pulse-datasheet-151605165.pdf?src-supplier=IHS; ComponentLink2URL: https://datasheet.octopart.com:443/PA4344.823ANLT-Pulse-datasheet-165545885.pdf?src-supplier=JRH+Electronics; ComponentLink2Description: https://datasheet.octopart.com:443/PA4344.823ANLT-Pulse-datasheet-165545885.pdf?src-supplier=JRH+Electronics; ComponentLink3URL: https://datasheet.octopart.com:443/PA4344.823ANLT-Pulse-Electronics-datasheet-184973453.pdf?src-supplier=Master+Electronics; ComponentLink3Description: https://datasheet.octopart.com:443/PA4344.823ANLT-Pulse-Electronics-datasheet-184973453.pdf?src-supplier=Master+Electronics; ComponentLink4URL: https://datasheet.octopart.com:443/PA4344.823ANLT-Pulse-datasheet-118084069.pdf?src-supplier=Sager+Electronics; ComponentLink4Description: https://datasheet.octopart.com:443/PA4344.823ANLT-Pulse-datasheet-118084069.pdf?src-supplier=Sager+Electronics; ComponentLink5URL: https://datasheet.octopart.com:443/PA4344.823ANLT-Pulse-datasheet-156002114.pdf?src-supplier=Future+Electronics; ComponentLink5Description: https://datasheet.octopart.com:443/PA4344.823ANLT-Pulse-datasheet-156002114.pdf?src-supplier=Future+Electronics
footprint PA4344823ANLT
pins: 1, 2

## RMCF0805FT10K5
designator *
Res Thick Film 0805 10.5K Ohm 1% 0.125W ±100ppm/°C Molded SMD Paper T/R; Manufacturer: Stackpole Electronics; Manufacturer Part Number: RMCF0805FT10K5; Max Power Dissipation: 125mW; Value: 10.5kΩ; Voltage Rating: 150V; Supplier: Mouser; Supplier Part Number: 708-RMCF0805FT10K5; RoHS: Compliant; Category: Chip SMD Resistors; Stock: 17097; Pricing: 1=0.1, 10=0.008, 50=0.008, 100=0.007, 1000=0.007, 10000=0.002 (USD); Case/Package: 0805; Case Code (Imperial): 0805; Case Code (Metric): 2012; China RoHS: Non-Compliant; Composition: Thick Film; Contact Plating: Tin; Country of Origin: Japan, Mainland China, Taiwan; Export Control Classification Number (ECCN) Code: EAR99; Features: Automotive AEC-Q200; Height: 500µm; Harmonized Tariff Schedule (HTS) Code: 8533.21.00.30; Introduction Date: 2011-01-07; Lead Free: Lead Free; Length: 2.0066mm; Lifecycle Status: Production; Max Operating Temperature: 155°C; Min Operating Temperature: -55°C; Mounting Technology: Surface Mount; Number of Terminals: 2; Number of Terminations: 2; Packaging: Cut Tape (CT); Power Dissipation: 125mW; Power Rating: 125mW; Radiation Hardening: No; REACH SVHC: Yes; Schedule B: 8533210045, 8533210045|8533210045|8533210045|8533210045|8533210045; Temperature Coefficient: 100ppm/°C; Tolerance: 1%; Width: 1.25mm; Working Voltage: 150V; ComponentLink1URL: https://datasheet.octopart.com:443/RMCF0805FT10K5-Stackpole-Electronics-datasheet-182148065.pdf?src-supplier=IHS; ComponentLink1Description: https://datasheet.octopart.com:443/RMCF0805FT10K5-Stackpole-Electronics-datasheet-182148065.pdf?src-supplier=IHS; ComponentLink2URL: https://datasheet.octopart.com:443/RMCF0805FT10K5-Stackpole-Electronics-datasheet-28504820.pdf?src-supplier=Upverter; ComponentLink2Description: https://datasheet.octopart.com:443/RMCF0805FT10K5-Stackpole-Electronics-datasheet-28504820.pdf?src-supplier=Upverter; ComponentLink3URL: https://datasheet.octopart.com:443/RMCF0805FT10K5-Stackpole-Electronics-datasheet-141193804.pdf?src-supplier=Future+Electronics; ComponentLink3Description: https://datasheet.octopart.com:443/RMCF0805FT10K5-Stackpole-Electronics-datasheet-141193804.pdf?src-supplier=Future+Electronics; ComponentLink4URL: https://datasheet.octopart.com:443/RMCF0805FT10K5-Stackpole-Electronics-datasheet-116606903.pdf?src-supplier=Future+Electronics; ComponentLink4Description: https://datasheet.octopart.com:443/RMCF0805FT10K5-Stackpole-Electronics-datasheet-116606903.pdf?src-supplier=Future+Electronics; ComponentLink5URL: https://datasheet.octopart.com:443/RMCF0805FT10K5-Stackpole-Electronics-datasheet-62091608.pdf?src-supplier=Stackpole+Electronics; ComponentLink5Description: https://datasheet.octopart.com:443/RMCF0805FT10K5-Stackpole-Electronics-datasheet-62091608.pdf?src-supplier=Stackpole+Electronics; ComponentLink6URL: https://datasheet.octopart.com:443/RMCF0805FT10K5-Stackpole-Electronics-datasheet-12534581.pdf?src-supplier=Stackpole+Electronics; ComponentLink6Description: https://datasheet.octopart.com:443/RMCF0805FT10K5-Stackpole-Electronics-datasheet-12534581.pdf?src-supplier=Stackpole+Electronics; ComponentLink7URL: https://datasheet.octopart.com:443/RMCF0805FT10K5-Stackpole-Electronics-datasheet-10788263.pdf?src-supplier=Stackpole+Electronics; ComponentLink7Description: https://datasheet.octopart.com:443/RMCF0805FT10K5-Stackpole-Electronics-datasheet-10788263.pdf?src-supplier=Stackpole+Electronics; ComponentLink8URL: http://sigma.octopart.com:80/15940719/materials_sheet/Stackpole-Electronics-RMCF0805FT10K5.pdf?src-supplier=Compliance+Statements; ComponentLink8Description: http://sigma.octopart.com:80/15940719/materials_sheet/Stackpole-Electronics-RMCF0805FT10K5.pdf?src-supplier=Compliance+Statements; ComponentLink9URL: http://sigma.octopart.com:80/141158212/rohs_statement/Stackpole-Electronics-RMCF0805FT10K5.pdf?src-supplier=Compliance+Statements; ComponentLink9Description: http://sigma.octopart.com:80/141158212/rohs_statement/Stackpole-Electronics-RMCF0805FT10K5.pdf?src-supplier=Compliance+Statements; ComponentLink10URL: http://sigma.octopart.com:80/141158211/reach_statement/Stackpole-Electronics-RMCF0805FT10K5.pdf?src-supplier=Compliance+Statements; ComponentLink10Description: http://sigma.octopart.com:80/141158211/reach_statement/Stackpole-Electronics-RMCF0805FT10K5.pdf?src-supplier=Compliance+Statements
pins: 1, 2

## RMCF0805JT180R
designator *
Res Thick Film 0805 180 Ohm 5% 0.125W(1/8W) ±200ppm/C Pad SMD Automotive T/R; Manufacturer: Stackpole Electronics; Manufacturer Part Number: RMCF0805JT180R; Max Power Dissipation: 125mW; Value: 180Ω; Temperature Coefficient: 100ppm/°C; Voltage Rating: 150V; Supplier: Mouser; Supplier Part Number: 708-RMCF0805JT180R; RoHS: Compliant; Category: Chip SMD Resistors; Stock: 102621; Pricing: 1=0.1, 10=0.007, 50=0.007, 100=0.006, 1000=0.006, 10000=0.002 (USD); Case/Package: 0805; Case Code (Imperial): 0805; Case Code (Metric): 2012; China RoHS: Non-Compliant; Composition: Thick Film; Contact Plating: Tin; Country of Origin: Japan, Mainland China, Taiwan; Depth: 1.25mm; Export Control Classification Number (ECCN) Code: EAR99; Features: Automotive AEC-Q200; Height: 500µm; Harmonized Tariff Schedule (HTS) Code: 8533.21.00.30; Introduction Date: 2011-01-07; Lead Free: Lead Free; Length: 2.0066mm; Lifecycle Status: Production; Max Operating Temperature: 155°C; Military Standard: Not; Min Operating Temperature: -55°C; Mounting Technology: Surface Mount; Number of Terminals: 2; Number of Terminations: 2; Packaging: Digi-Reel®; Power Dissipation: 125mW; Power Rating: 125mW; Radiation Hardening: No; REACH SVHC: Yes; Schedule B: 8533210045, 8533210045|8533210045, 8533210045|8533210045|8533210045, 8533210045|8533210045|8533210045|8533210045; Tolerance: 5%; Width: 1.25mm; Working Voltage: 150V; ComponentLink1URL: https://datasheet.octopart.com:443/RMCF0805JT180R-Stackpole-Electronics-datasheet-182148065.pdf?src-supplier=IHS; ComponentLink1Description: https://datasheet.octopart.com:443/RMCF0805JT180R-Stackpole-Electronics-datasheet-182148065.pdf?src-supplier=IHS; ComponentLink2URL: https://datasheet.octopart.com:443/RMCF0805JT180R-Stackpole-Electronics-datasheet-28504820.pdf?src-supplier=Upverter; ComponentLink2Description: https://datasheet.octopart.com:443/RMCF0805JT180R-Stackpole-Electronics-datasheet-28504820.pdf?src-supplier=Upverter; ComponentLink3URL: https://datasheet.octopart.com:443/RMCF0805JT180R-Stackpole-Electronics-datasheet-141193804.pdf?src-supplier=Master+Electronics; ComponentLink3Description: https://datasheet.octopart.com:443/RMCF0805JT180R-Stackpole-Electronics-datasheet-141193804.pdf?src-supplier=Master+Electronics; ComponentLink4URL: https://datasheet.octopart.com:443/RMCF0805JT180R-Stackpole-Electronics-datasheet-189104163.pdf?src-supplier=Master+Electronics; ComponentLink4Description: https://datasheet.octopart.com:443/RMCF0805JT180R-Stackpole-Electronics-datasheet-189104163.pdf?src-supplier=Master+Electronics; ComponentLink5URL: https://datasheet.octopart.com:443/RMCF0805JT180R-Stackpole-Electronics-datasheet-116606903.pdf?src-supplier=Master+Electronics; ComponentLink5Description: https://datasheet.octopart.com:443/RMCF0805JT180R-Stackpole-Electronics-datasheet-116606903.pdf?src-supplier=Master+Electronics; ComponentLink6URL: https://datasheet.octopart.com:443/RMCF0805JT180R-Stackpole-Electronics-datasheet-12534581.pdf?src-supplier=Future+Electronics; ComponentLink6Description: https://datasheet.octopart.com:443/RMCF0805JT180R-Stackpole-Electronics-datasheet-12534581.pdf?src-supplier=Future+Electronics; ComponentLink7URL: https://datasheet.octopart.com:443/RMCF0805JT180R-Stackpole-Electronics-datasheet-12510902.pdf?src-supplier=Future+Electronics; ComponentLink7Description: https://datasheet.octopart.com:443/RMCF0805JT180R-Stackpole-Electronics-datasheet-12510902.pdf?src-supplier=Future+Electronics; ComponentLink8URL: https://datasheet.octopart.com:443/RMCF0805JT180R-Stackpole-Electronics-datasheet-62091608.pdf?src-supplier=Stackpole+Electronics; ComponentLink8Description: https://datasheet.octopart.com:443/RMCF0805JT180R-Stackpole-Electronics-datasheet-62091608.pdf?src-supplier=Stackpole+Electronics; ComponentLink9URL: https://datasheet.octopart.com:443/RMCF0805JT180R-Stackpole-Electronics-datasheet-10788263.pdf?src-supplier=Stackpole+Electronics; ComponentLink9Description: https://datasheet.octopart.com:443/RMCF0805JT180R-Stackpole-Electronics-datasheet-10788263.pdf?src-supplier=Stackpole+Electronics; ComponentLink10URL: http://sigma.octopart.com:80/15940719/materials_sheet/Stackpole-Electronics-RMCF0805JT180R.pdf?src-supplier=Compliance+Statements; ComponentLink10Description: http://sigma.octopart.com:80/15940719/materials_sheet/Stackpole-Electronics-RMCF0805JT180R.pdf?src-supplier=Compliance+Statements; ComponentLink11URL: http://sigma.octopart.com:80/141158212/rohs_statement/Stackpole-Electronics-RMCF0805JT180R.pdf?src-supplier=Compliance+Statements; ComponentLink11Description: http://sigma.octopart.com:80/141158212/rohs_statement/Stackpole-Electronics-RMCF0805JT180R.pdf?src-supplier=Compliance+Statements; ComponentLink12URL: http://sigma.octopart.com:80/141158211/reach_statement/Stackpole-Electronics-RMCF0805JT180R.pdf?src-supplier=Compliance+Statements; ComponentLink12Description: http://sigma.octopart.com:80/141158211/reach_statement/Stackpole-Electronics-RMCF0805JT180R.pdf?src-supplier=Compliance+Statements
footprint FP-RMCF0805-IPC_A
pins: 1, 2